# Altium schematic symbol library mcb.SchLib: 4 symbols
Pins are listed as number, name and electrical type; pins without a type are passive.

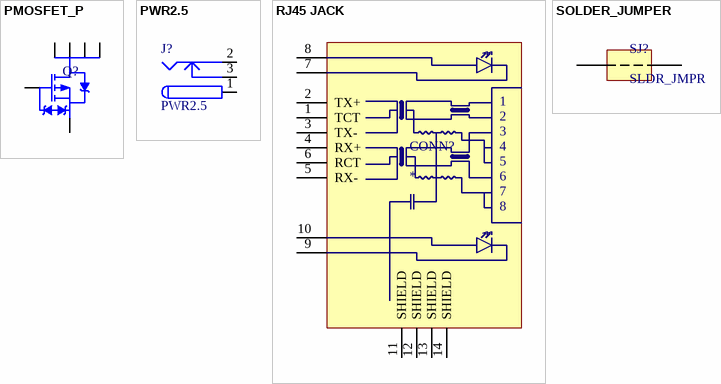
[diagram p0: symbols PMOSFET_P to SOLDER_JUMPER]

## PMOSFET_P
designator Q?  (value not drawn)
FAIRCHILD SEMICONDUCTOR - FDC608PZ - MOSFET, P, SMD, SSOT-6; farnell: 1495225
footprint FDC608PZ (FAIRCHILD SEMICONDUCTOR - FDC608PZ - MOSFET, P, SMD, SSOT-6)
pins: 1 D, 2 D, 3 G, 4 S, 5 D, 6 D

## PWR2.5
designator J?
Low Voltage Power Supply Connector; farnell: 1608726
signal-integrity model Connector
footprint 2.5MM_JACK
pins: 1 (power), 2 (power), 3 (power)

## RJ45 JACK
designator CONN?
10/100 BASE T; farnell: 1357436
footprint RJMG163118101NR (AMPHENOL - RJMG163118101NR - JACK, 10/100 BASE T, ROHS5)
pins: 1 TCT, 2 TX+, 3 TX-, 4 RX+, 5 RX-, 6 RCT, 7, 8, 9, 10, 11 SHIELD (power), 12 SHIELD (power), 13 SHIELD (power), 14 SHIELD (power)

## SOLDER_JUMPER
designator SJ?, comment SLDR_JMPR
SPST solder jumper
footprint SOLDER_JUMPER
pins: 1, 2